# EAGLE library part STM32_NUCLEO-32 (library Stm32_Nucleo-32)
STM32_NUCLEO-32
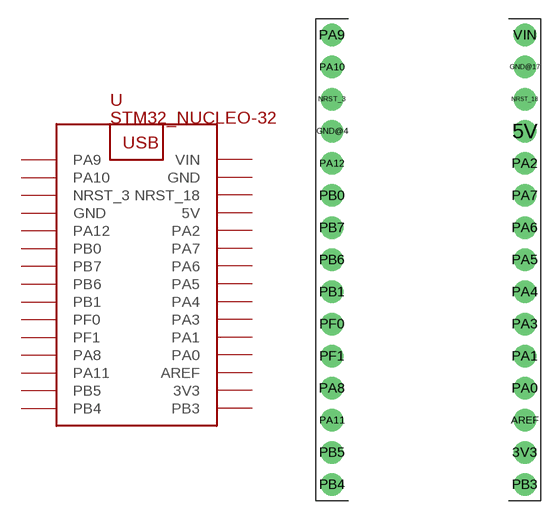
[diagram p0: symbol with the pads of STM32_NUCLEO-32; footprint STM32_NUCLEO-32]

Designator prefix -

## STM32_NUCLEO-32  [STM32_NUCLEO-32]
3V3  3V3  pwr
5V  5V  pwr
AREF  AREF
GND@4  GND  pwr
GND@17  GND  pwr
NRST_3  NRST_3
NRST_18  NRST_18
PA0  PA0
PA1  PA1
PA2  PA2
PA3  PA3
PA4  PA4
PA5  PA5
PA6  PA6
PA7  PA7
PA8  PA8
PA9  PA9
PA10  PA10
PA11  PA11
PA12  PA12
PB0  PB0
PB1  PB1
PB3  PB3
PB4  PB4
PB5  PB5
PB6  PB6
PB7  PB7
PF0  PF0
PF1  PF1
VIN  VIN  pwr

## Footprint STM32_NUCLEO-32 (pad centres in mm)
STM32_NUCLEO-32
drill 1 pad 1.778: 3V3 16.51,3.81; 5V 16.51,29.21; AREF 16.51,6.35; GND@4 1.27,29.21; GND@17 16.51,34.29; NRST_3 1.27,31.75; NRST_18 16.51,31.75; PA0 16.51,8.89; PA1 16.51,11.43; PA2 16.51,26.67; PA3 16.51,13.97; PA4 16.51,16.51; PA5 16.51,19.05; PA6 16.51,21.59; PA7 16.51,24.13; PA8 1.27,8.89; PA9 1.27,36.83; PA10 1.27,34.29; PA11 1.27,6.35; PA12 1.27,26.67; PB0 1.27,24.13; PB1 1.27,16.51; PB3 16.51,1.27; PB4 1.27,1.27; PB5 1.27,3.81; PB6 1.27,19.05; PB7 1.27,21.59; PF0 1.27,13.97; PF1 1.27,11.43; VIN 16.51,36.83